# Altium integrated library CL21B104KCFNNNE.IntLib: 1 symbol
Pins are listed as number, name and electrical type; pins without a type are passive.

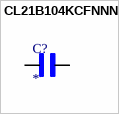
[diagram p0: symbol CL21B104KCFNNNE]

## CL21B104KCFNNNE
designator C?
0.1 ÂµF Â±10% 100V Ceramic Capacitor X7R 0805 (2012 Metric); MF: Samsung; MP: CL21B104KCFNNNE; SnapEDA_Link: https://www.snapeda.com/parts/CL21B104KCFNNNE/Samsung/view-part/?ref=snap; Package: SMD-2 Samsung; Value: *; Check_prices: https://www.snapeda.com/parts/CL21B104KCFNNNE/Samsung/view-part/?ref=eda
footprint CAPC2012X135N
pins: 1, 2